# Altium footprint library ADI.PcbLib: 25 footprints (part 2 of 4)
Each footprint in its own frame and in the unit in brackets; x right, y up, seen from the top. Pads: shape width x height; smd on the part's side, far side on the other; paste and mask are expansions set on the pad; w line width, h text height; cw(c..) or ccw(c..) is an arc to the next point about the centre after c.
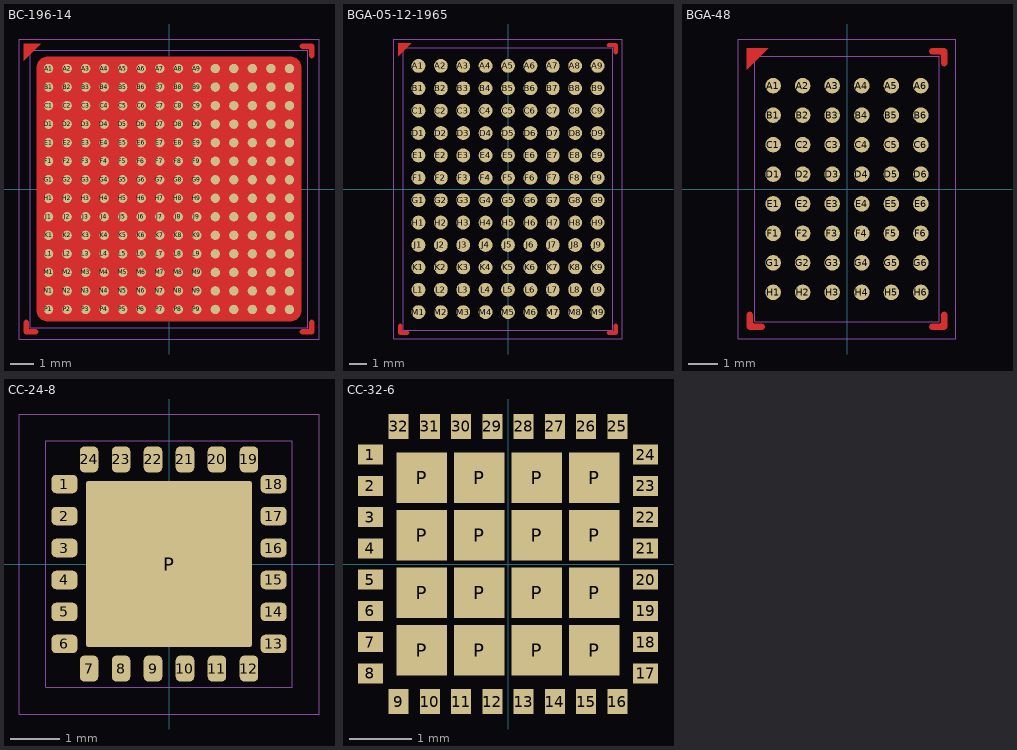
[diagram p1: the footprints below, top view; thin cyan lines are the x and y axes]

## BC-196-14 [mil]
pads (196):
  round 16 smd mask+2: A1(-204.72,204.72) A2(-173.23,204.72) A3(-141.73,204.72) A4(-110.24,204.72) A5(-78.74,204.72) A6(-47.24,204.72) A7(-15.75,204.72) A8(15.75,204.72) A9(47.24,204.72) A10(78.74,204.72) A11(110.24,204.72) A12(141.73,204.72) A13(173.23,204.72) A14(204.72,204.72) B1(-204.72,173.23) B2(-173.23,173.23) B3(-141.73,173.23) B4(-110.24,173.23) B5(-78.74,173.23) B6(-47.24,173.23) B7(-15.75,173.23) B8(15.75,173.23) B9(47.24,173.23) B10(78.74,173.23) B11(110.24,173.23) B12(141.73,173.23) B13(173.23,173.23) B14(204.72,173.23) C1(-204.72,141.73) C2(-173.23,141.73) C3(-141.73,141.73) C4(-110.24,141.73) C5(-78.74,141.73) C6(-47.24,141.73) C7(-15.75,141.73) C8(15.75,141.73) C9(47.24,141.73) C10(78.74,141.73) C11(110.24,141.73) C12(141.73,141.73) C13(173.23,141.73) C14(204.72,141.73) D1(-204.72,110.24) D2(-173.23,110.24) D3(-141.73,110.24) D4(-110.24,110.24) D5(-78.74,110.24) D6(-47.24,110.24) D7(-15.75,110.24) D8(15.75,110.24) D9(47.24,110.24) D10(78.74,110.24) D11(110.24,110.24) D12(141.73,110.24) D13(173.23,110.24) D14(204.72,110.24) E1(-204.72,78.74) E2(-173.23,78.74) E3(-141.73,78.74) E4(-110.24,78.74) E5(-78.74,78.74) E6(-47.24,78.74) E7(-15.75,78.74) E8(15.75,78.74) E9(47.24,78.74) E10(78.74,78.74) E11(110.24,78.74) E12(141.73,78.74) E13(173.23,78.74) E14(204.72,78.74) F1(-204.72,47.24) F2(-173.23,47.24) F3(-141.73,47.24) F4(-110.24,47.24) F5(-78.74,47.24) F6(-47.24,47.24) F7(-15.75,47.24) F8(15.75,47.24) F9(47.24,47.24) F10(78.74,47.24) F11(110.24,47.24) F12(141.73,47.24) F13(173.23,47.24) F14(204.72,47.24) G1(-204.72,15.75) G2(-173.23,15.75) G3(-141.73,15.75) G4(-110.24,15.75) G5(-78.74,15.75) G6(-47.24,15.75) G7(-15.75,15.75) G8(15.75,15.75) G9(47.24,15.75) G10(78.74,15.75) G11(110.24,15.75) G12(141.73,15.75) G13(173.23,15.75) G14(204.72,15.75) H1(-204.72,-15.75) H2(-173.23,-15.75) H3(-141.73,-15.75) H4(-110.24,-15.75) H5(-78.74,-15.75) H6(-47.24,-15.75) H7(-15.75,-15.75) H8(15.75,-15.75) H9(47.24,-15.75) H10(78.74,-15.75) H11(110.24,-15.75) H12(141.73,-15.75) H13(173.23,-15.75) H14(204.72,-15.75) J1(-204.72,-47.24) J2(-173.23,-47.24) J3(-141.73,-47.24) J4(-110.24,-47.24) J5(-78.74,-47.24) J6(-47.24,-47.24) J7(-15.75,-47.24) J8(15.75,-47.24) J9(47.24,-47.24) J10(78.74,-47.24) J11(110.24,-47.24) J12(141.73,-47.24) J13(173.23,-47.24) J14(204.72,-47.24) K1(-204.72,-78.74) K2(-173.23,-78.74) K3(-141.73,-78.74) K4(-110.24,-78.74) K5(-78.74,-78.74) K6(-47.24,-78.74) K7(-15.75,-78.74) K8(15.75,-78.74) K9(47.24,-78.74) K10(78.74,-78.74) K11(110.24,-78.74) K12(141.73,-78.74) K13(173.23,-78.74) K14(204.72,-78.74) L1(-204.72,-110.24) L2(-173.23,-110.24) L3(-141.73,-110.24) L4(-110.24,-110.24) L5(-78.74,-110.24) L6(-47.24,-110.24) L7(-15.75,-110.24) L8(15.75,-110.24) L9(47.24,-110.24) L10(78.74,-110.24) L11(110.24,-110.24) L12(141.73,-110.24) L13(173.23,-110.24) L14(204.72,-110.24) M1(-204.72,-141.73) M2(-173.23,-141.73) M3(-141.73,-141.73) M4(-110.24,-141.73) M5(-78.74,-141.73) M6(-47.24,-141.73) M7(-15.75,-141.73) M8(15.75,-141.73) M9(47.24,-141.73) M10(78.74,-141.73) M11(110.24,-141.73) M12(141.73,-141.73) M13(173.23,-141.73) M14(204.72,-141.73) N1(-204.72,-173.23) N2(-173.23,-173.23) N3(-141.73,-173.23) N4(-110.24,-173.23) N5(-78.74,-173.23) N6(-47.24,-173.23) N7(-15.75,-173.23) N8(15.75,-173.23) N9(47.24,-173.23) N10(78.74,-173.23) N11(110.24,-173.23) N12(141.73,-173.23) N13(173.23,-173.23) N14(204.72,-173.23) P1(-204.72,-204.72) P2(-173.23,-204.72) P3(-141.73,-204.72) P4(-110.24,-204.72) P5(-78.74,-204.72) P6(-47.24,-204.72) P7(-15.75,-204.72) P8(15.75,-204.72) P9(47.24,-204.72) P10(78.74,-204.72) P11(110.24,-204.72) P12(141.73,-204.72) P13(173.23,-204.72) P14(204.72,-204.72)
Top Layer:
  region: -238.68,-226.69 -238.68,-225.89 -239.29,-224.42 -240.42,-223.29 -241.89,-222.69 -242.68,-222.69 -243.48,-222.69 -244.95,-223.29 -246.08,-224.42 -246.68,-225.89 -246.68,-226.69 -246.68,-242.69 -246.68,-243.48 -246.08,-244.95 -244.95,-246.08 -243.48,-246.69 -242.68,-246.69 -226.68,-246.69 -225.89,-246.69 -224.42,-246.08 -223.29,-244.95 -222.68,-243.48 -222.68,-242.69 -222.68,-241.89 -223.29,-240.42 -224.42,-239.29 -225.89,-238.69 -226.68,-238.69 -236.68,-238.69 -237.07,-238.65 -237.8,-238.35 -238.35,-237.8 -238.65,-237.08 -238.68,-236.69
  region: 226.69,-238.68 225.89,-238.68 224.42,-239.29 223.29,-240.42 222.69,-241.89 222.69,-242.68 222.69,-243.48 223.29,-244.95 224.42,-246.08 225.89,-246.68 226.69,-246.68 242.69,-246.68 243.48,-246.68 244.95,-246.08 246.08,-244.95 246.69,-243.48 246.69,-242.68 246.69,-226.68 246.69,-225.89 246.08,-224.42 244.95,-223.29 243.48,-222.68 242.69,-222.68 241.89,-222.68 240.42,-223.29 239.29,-224.42 238.69,-225.89 238.69,-226.68 238.69,-236.68 238.65,-237.07 238.35,-237.8 237.8,-238.35 237.08,-238.65 236.69,-238.68
  region: -246.69,246.69 -246.69,218.14 -218.14,246.69
  pour cut-out: -225,-205 -225,-208.98 -221.96,-216.33 -216.33,-221.96 -208.98,-225 -205,-225 205,-225 208.98,-225 216.33,-221.96 221.96,-216.33 225,-208.98 225,-205 225,205 225,208.98 221.96,216.33 216.33,221.96 208.98,225 205,225 -205,225 -208.98,225 -216.33,221.96 -221.96,216.33 -225,208.98 -225,205
  region: 238.68,226.69 238.68,225.89 239.29,224.42 240.42,223.29 241.89,222.69 242.68,222.69 243.48,222.69 244.95,223.29 246.08,224.42 246.68,225.89 246.68,226.69 246.68,242.69 246.68,243.48 246.08,244.95 244.95,246.08 243.48,246.69 242.68,246.69 226.68,246.69 225.89,246.69 224.42,246.08 223.29,244.95 222.68,243.48 222.68,242.69 222.68,241.89 223.29,240.42 224.42,239.29 225.89,238.69 226.68,238.69 236.68,238.69 237.07,238.65 237.8,238.35 238.35,237.8 238.65,237.08 238.68,236.69
Top Designator:
  text ".Designator" at -127.64,-12.5 h35
Top Courtyard:
  lines w1: -255,-255 -255,255 255,255 255,-255 -255,-255
Top Component Outline:
  lines w1: -236.22,-236.22 -236.22,236.22 236.22,236.22 236.22,-236.22 -236.22,-236.22 ; -216,192 -216,201 -207,201 -207,192 -216,192 ; -129.72,-147.44 -129.72,147.44 129.72,147.44 129.72,-147.44 -129.72,-147.44
3D body: height 29.92, standoff 12.6, extent -236.22,-236.22 236.22,236.22
3D body: height 16.84, standoff -2.84, extent -214.53,194.99 -194.93,214.57
3D body: height 16.84, standoff -2.84, extent -214.53,163.49 -194.93,183.08
3D body: height 16.84, standoff -2.84, extent -214.53,132 -194.93,151.58
3D body: height 16.84, standoff -2.84, extent -214.53,100.5 -194.93,120.09
3D body: height 16.84, standoff -2.84, extent -214.53,69.01 -194.93,88.59
3D body: height 16.84, standoff -2.84, extent -214.53,37.51 -194.93,57.09
3D body: height 16.84, standoff -2.84, extent -214.53,6.01 -194.93,25.6
3D body: height 16.84, standoff -2.84, extent -214.53,-25.48 -194.93,-5.9
3D body: height 16.84, standoff -2.84, extent -214.53,-56.98 -194.93,-37.39
3D body: height 16.84, standoff -2.84, extent -214.53,-88.47 -194.93,-68.89
3D body: height 16.84, standoff -2.84, extent -214.53,-119.97 -194.93,-100.39
3D body: height 16.84, standoff -2.84, extent -214.53,-151.47 -194.93,-131.88
3D body: height 16.84, standoff -2.84, extent -214.53,-182.96 -194.93,-163.38
3D body: height 16.84, standoff -2.84, extent -214.53,-214.46 -194.93,-194.87
3D body: height 16.84, standoff -2.84, extent -183.03,194.99 -163.43,214.57
3D body: height 16.84, standoff -2.84, extent -183.03,163.49 -163.43,183.08
3D body: height 16.84, standoff -2.84, extent -183.03,132 -163.43,151.58
3D body: height 16.84, standoff -2.84, extent -183.03,100.5 -163.43,120.09
3D body: height 16.84, standoff -2.84, extent -183.03,69.01 -163.43,88.59
3D body: height 16.84, standoff -2.84, extent -183.03,37.51 -163.43,57.09
3D body: height 16.84, standoff -2.84, extent -183.03,6.01 -163.43,25.6
3D body: height 16.84, standoff -2.84, extent -183.03,-25.48 -163.43,-5.9
3D body: height 16.84, standoff -2.84, extent -183.03,-56.98 -163.43,-37.39
3D body: height 16.84, standoff -2.84, extent -183.03,-88.47 -163.43,-68.89
3D body: height 16.84, standoff -2.84, extent -183.03,-119.97 -163.43,-100.39
3D body: height 16.84, standoff -2.84, extent -183.03,-151.47 -163.43,-131.88
3D body: height 16.84, standoff -2.84, extent -183.03,-182.96 -163.43,-163.38
3D body: height 16.84, standoff -2.84, extent -183.03,-214.46 -163.43,-194.87
3D body: height 16.84, standoff -2.84, extent -151.54,194.99 -131.93,214.57
3D body: height 16.84, standoff -2.84, extent -151.54,163.49 -131.93,183.08
3D body: height 16.84, standoff -2.84, extent -151.54,132 -131.93,151.58
3D body: height 16.84, standoff -2.84, extent -151.54,100.5 -131.93,120.09
3D body: height 16.84, standoff -2.84, extent -151.54,69.01 -131.93,88.59
3D body: height 16.84, standoff -2.84, extent -151.54,37.51 -131.93,57.09
3D body: height 16.84, standoff -2.84, extent -151.54,6.01 -131.93,25.6
3D body: height 16.84, standoff -2.84, extent -151.54,-25.48 -131.93,-5.9
3D body: height 16.84, standoff -2.84, extent -151.54,-56.98 -131.93,-37.39
3D body: height 16.84, standoff -2.84, extent -151.54,-88.47 -131.93,-68.89
3D body: height 16.84, standoff -2.84, extent -151.54,-119.97 -131.93,-100.39
3D body: height 16.84, standoff -2.84, extent -151.54,-151.47 -131.93,-131.88
3D body: height 16.84, standoff -2.84, extent -151.54,-182.96 -131.93,-163.38
3D body: height 16.84, standoff -2.84, extent -151.54,-214.46 -131.93,-194.87
3D body: height 16.84, standoff -2.84, extent -120.04,194.99 -100.44,214.57
3D body: height 16.84, standoff -2.84, extent -120.04,163.49 -100.44,183.08
3D body: height 16.84, standoff -2.84, extent -120.04,132 -100.44,151.58
3D body: height 16.84, standoff -2.84, extent -120.04,100.5 -100.44,120.09
3D body: height 16.84, standoff -2.84, extent -120.04,69.01 -100.44,88.59
3D body: height 16.84, standoff -2.84, extent -120.04,37.51 -100.44,57.09
3D body: height 16.84, standoff -2.84, extent -120.04,6.01 -100.44,25.6
3D body: height 16.84, standoff -2.84, extent -120.04,-25.48 -100.44,-5.9
3D body: height 16.84, standoff -2.84, extent -120.04,-56.98 -100.44,-37.39
3D body: height 16.84, standoff -2.84, extent -120.04,-88.47 -100.44,-68.89
3D body: height 16.84, standoff -2.84, extent -120.04,-119.97 -100.44,-100.39
3D body: height 16.84, standoff -2.84, extent -120.04,-151.47 -100.44,-131.88
3D body: height 16.84, standoff -2.84, extent -120.04,-182.96 -100.44,-163.38
3D body: height 16.84, standoff -2.84, extent -120.04,-214.46 -100.44,-194.87
3D body: height 16.84, standoff -2.84, extent -88.54,194.99 -68.94,214.57
3D body: height 16.84, standoff -2.84, extent -88.54,163.49 -68.94,183.08
3D body: height 16.84, standoff -2.84, extent -88.54,132 -68.94,151.58
3D body: height 16.84, standoff -2.84, extent -88.54,100.5 -68.94,120.09
3D body: height 16.84, standoff -2.84, extent -88.54,69.01 -68.94,88.59
3D body: height 16.84, standoff -2.84, extent -88.54,37.51 -68.94,57.09
3D body: height 16.84, standoff -2.84, extent -88.54,6.01 -68.94,25.6
3D body: height 16.84, standoff -2.84, extent -88.54,-25.48 -68.94,-5.9
3D body: height 16.84, standoff -2.84, extent -88.54,-56.98 -68.94,-37.39
3D body: height 16.84, standoff -2.84, extent -88.54,-88.47 -68.94,-68.89
3D body: height 16.84, standoff -2.84, extent -88.54,-119.97 -68.94,-100.39
3D body: height 16.84, standoff -2.84, extent -88.54,-151.47 -68.94,-131.88
3D body: height 16.84, standoff -2.84, extent -88.54,-182.96 -68.94,-163.38
3D body: height 16.84, standoff -2.84, extent -88.54,-214.46 -68.94,-194.87
3D body: height 16.84, standoff -2.84, extent -57.05,194.99 -37.44,214.57
3D body: height 16.84, standoff -2.84, extent -57.05,163.49 -37.44,183.08
3D body: height 16.84, standoff -2.84, extent -57.05,132 -37.44,151.58
3D body: height 16.84, standoff -2.84, extent -57.05,100.5 -37.44,120.09
3D body: height 16.84, standoff -2.84, extent -57.05,69.01 -37.44,88.59
3D body: height 16.84, standoff -2.84, extent -57.05,37.51 -37.44,57.09
3D body: height 16.84, standoff -2.84, extent -57.05,6.01 -37.44,25.6
3D body: height 16.84, standoff -2.84, extent -57.05,-25.48 -37.44,-5.9
3D body: height 16.84, standoff -2.84, extent -57.05,-56.98 -37.44,-37.39
3D body: height 16.84, standoff -2.84, extent -57.05,-88.47 -37.44,-68.89
3D body: height 16.84, standoff -2.84, extent -57.05,-119.97 -37.44,-100.39
3D body: height 16.84, standoff -2.84, extent -57.05,-151.47 -37.44,-131.88
3D body: height 16.84, standoff -2.84, extent -57.05,-182.96 -37.44,-163.38
3D body: height 16.84, standoff -2.84, extent -57.05,-214.46 -37.44,-194.87
3D body: height 16.84, standoff -2.84, extent -25.55,194.99 -5.95,214.57
3D body: height 16.84, standoff -2.84, extent -25.55,163.49 -5.95,183.08
3D body: height 16.84, standoff -2.84, extent -25.55,132 -5.95,151.58
3D body: height 16.84, standoff -2.84, extent -25.55,100.5 -5.95,120.09
3D body: height 16.84, standoff -2.84, extent -25.55,69.01 -5.95,88.59
3D body: height 16.84, standoff -2.84, extent -25.55,37.51 -5.95,57.09
3D body: height 16.84, standoff -2.84, extent -25.55,6.01 -5.95,25.6
3D body: height 16.84, standoff -2.84, extent -25.55,-25.48 -5.95,-5.9
3D body: height 16.84, standoff -2.84, extent -25.55,-56.98 -5.95,-37.39
3D body: height 16.84, standoff -2.84, extent -25.55,-88.47 -5.95,-68.89
3D body: height 16.84, standoff -2.84, extent -25.55,-119.97 -5.95,-100.39
3D body: height 16.84, standoff -2.84, extent -25.55,-151.47 -5.95,-131.88
3D body: height 16.84, standoff -2.84, extent -25.55,-182.96 -5.95,-163.38
3D body: height 16.84, standoff -2.84, extent -25.55,-214.46 -5.95,-194.87
3D body: height 16.84, standoff -2.84, extent 5.94,194.99 25.55,214.57
3D body: height 16.84, standoff -2.84, extent 5.94,163.49 25.55,183.08
3D body: height 16.84, standoff -2.84, extent 5.94,132 25.55,151.58
3D body: height 16.84, standoff -2.84, extent 5.94,100.5 25.55,120.09
3D body: height 16.84, standoff -2.84, extent 5.94,69.01 25.55,88.59
3D body: height 16.84, standoff -2.84, extent 5.94,37.51 25.55,57.09
3D body: height 16.84, standoff -2.84, extent 5.94,6.01 25.55,25.6
3D body: height 16.84, standoff -2.84, extent 5.94,-25.48 25.55,-5.9
3D body: height 16.84, standoff -2.84, extent 5.94,-56.98 25.55,-37.39
3D body: height 16.84, standoff -2.84, extent 5.94,-88.47 25.55,-68.89
3D body: height 16.84, standoff -2.84, extent 5.94,-119.97 25.55,-100.39
3D body: height 16.84, standoff -2.84, extent 5.94,-151.47 25.55,-131.88
3D body: height 16.84, standoff -2.84, extent 5.94,-182.96 25.55,-163.38
3D body: height 16.84, standoff -2.84, extent 5.94,-214.46 25.55,-194.87
3D body: height 16.84, standoff -2.84, extent 37.44,194.99 57.04,214.57
3D body: height 16.84, standoff -2.84, extent 37.44,163.49 57.04,183.08
3D body: height 16.84, standoff -2.84, extent 37.44,132 57.04,151.58
3D body: height 16.84, standoff -2.84, extent 37.44,100.5 57.04,120.09
3D body: height 16.84, standoff -2.84, extent 37.44,69.01 57.04,88.59
3D body: height 16.84, standoff -2.84, extent 37.44,37.51 57.04,57.09
3D body: height 16.84, standoff -2.84, extent 37.44,6.01 57.04,25.6
3D body: height 16.84, standoff -2.84, extent 37.44,-25.48 57.04,-5.9
3D body: height 16.84, standoff -2.84, extent 37.44,-56.98 57.04,-37.39
3D body: height 16.84, standoff -2.84, extent 37.44,-88.47 57.04,-68.89
3D body: height 16.84, standoff -2.84, extent 37.44,-119.97 57.04,-100.39
3D body: height 16.84, standoff -2.84, extent 37.44,-151.47 57.04,-131.88
3D body: height 16.84, standoff -2.84, extent 37.44,-182.96 57.04,-163.38
3D body: height 16.84, standoff -2.84, extent 37.44,-214.46 57.04,-194.87
3D body: height 16.84, standoff -2.84, extent 68.94,194.99 88.54,214.57
3D body: height 16.84, standoff -2.84, extent 68.94,163.49 88.54,183.08
3D body: height 16.84, standoff -2.84, extent 68.94,132 88.54,151.58
3D body: height 16.84, standoff -2.84, extent 68.94,100.5 88.54,120.09
3D body: height 16.84, standoff -2.84, extent 68.94,69.01 88.54,88.59
3D body: height 16.84, standoff -2.84, extent 68.94,37.51 88.54,57.09
3D body: height 16.84, standoff -2.84, extent 68.94,6.01 88.54,25.6
3D body: height 16.84, standoff -2.84, extent 68.94,-25.48 88.54,-5.9
3D body: height 16.84, standoff -2.84, extent 68.94,-56.98 88.54,-37.39
3D body: height 16.84, standoff -2.84, extent 68.94,-88.47 88.54,-68.89
3D body: height 16.84, standoff -2.84, extent 68.94,-119.97 88.54,-100.39
3D body: height 16.84, standoff -2.84, extent 68.94,-151.47 88.54,-131.88
3D body: height 16.84, standoff -2.84, extent 68.94,-182.96 88.54,-163.38
3D body: height 16.84, standoff -2.84, extent 68.94,-214.46 88.54,-194.87
3D body: height 16.84, standoff -2.84, extent 100.43,194.99 120.04,214.57
3D body: height 16.84, standoff -2.84, extent 100.43,163.49 120.04,183.08
3D body: height 16.84, standoff -2.84, extent 100.43,132 120.04,151.58
3D body: height 16.84, standoff -2.84, extent 100.43,100.5 120.04,120.09
3D body: height 16.84, standoff -2.84, extent 100.43,69.01 120.04,88.59
3D body: height 16.84, standoff -2.84, extent 100.43,37.51 120.04,57.09
3D body: height 16.84, standoff -2.84, extent 100.43,6.01 120.04,25.6
3D body: height 16.84, standoff -2.84, extent 100.43,-25.48 120.04,-5.9
3D body: height 16.84, standoff -2.84, extent 100.43,-56.98 120.04,-37.39
3D body: height 16.84, standoff -2.84, extent 100.43,-88.47 120.04,-68.89
3D body: height 16.84, standoff -2.84, extent 100.43,-119.97 120.04,-100.39
3D body: height 16.84, standoff -2.84, extent 100.43,-151.47 120.04,-131.88
3D body: height 16.84, standoff -2.84, extent 100.43,-182.96 120.04,-163.38
3D body: height 16.84, standoff -2.84, extent 100.43,-214.46 120.04,-194.87
3D body: height 16.84, standoff -2.84, extent 131.93,194.99 151.53,214.57
3D body: height 16.84, standoff -2.84, extent 131.93,163.49 151.53,183.08
3D body: height 16.84, standoff -2.84, extent 131.93,132 151.53,151.58
3D body: height 16.84, standoff -2.84, extent 131.93,100.5 151.53,120.09
3D body: height 16.84, standoff -2.84, extent 131.93,69.01 151.53,88.59
3D body: height 16.84, standoff -2.84, extent 131.93,37.51 151.53,57.09
3D body: height 16.84, standoff -2.84, extent 131.93,6.01 151.53,25.6
3D body: height 16.84, standoff -2.84, extent 131.93,-25.48 151.53,-5.9
3D body: height 16.84, standoff -2.84, extent 131.93,-56.98 151.53,-37.39
3D body: height 16.84, standoff -2.84, extent 131.93,-88.47 151.53,-68.89
3D body: height 16.84, standoff -2.84, extent 131.93,-119.97 151.53,-100.39
3D body: height 16.84, standoff -2.84, extent 131.93,-151.47 151.53,-131.88
3D body: height 16.84, standoff -2.84, extent 131.93,-182.96 151.53,-163.38
3D body: height 16.84, standoff -2.84, extent 131.93,-214.46 151.53,-194.87
3D body: height 16.84, standoff -2.84, extent 163.42,194.99 183.03,214.57
3D body: height 16.84, standoff -2.84, extent 163.42,163.49 183.03,183.08
3D body: height 16.84, standoff -2.84, extent 163.42,132 183.03,151.58
3D body: height 16.84, standoff -2.84, extent 163.42,100.5 183.03,120.09
3D body: height 16.84, standoff -2.84, extent 163.42,69.01 183.03,88.59
3D body: height 16.84, standoff -2.84, extent 163.42,37.51 183.03,57.09
3D body: height 16.84, standoff -2.84, extent 163.42,6.01 183.03,25.6
3D body: height 16.84, standoff -2.84, extent 163.42,-25.48 183.03,-5.9
3D body: height 16.84, standoff -2.84, extent 163.42,-56.98 183.03,-37.39
3D body: height 16.84, standoff -2.84, extent 163.42,-88.47 183.03,-68.89
3D body: height 16.84, standoff -2.84, extent 163.42,-119.97 183.03,-100.39
3D body: height 16.84, standoff -2.84, extent 163.42,-151.47 183.03,-131.88
3D body: height 16.84, standoff -2.84, extent 163.42,-182.96 183.03,-163.38
3D body: height 16.84, standoff -2.84, extent 163.42,-214.46 183.03,-194.87
3D body: height 16.84, standoff -2.84, extent 194.92,-214.46 214.52,-194.87
3D body: height 16.84, standoff -2.84, extent 194.92,-182.96 214.52,-163.38
3D body: height 16.84, standoff -2.84, extent 194.92,-151.47 214.52,-131.88
3D body: height 16.84, standoff -2.84, extent 194.92,-119.97 214.52,-100.39
3D body: height 16.84, standoff -2.84, extent 194.92,-88.47 214.52,-68.89
3D body: height 16.84, standoff -2.84, extent 194.92,-56.98 214.52,-37.39
3D body: height 16.84, standoff -2.84, extent 194.92,-25.48 214.52,-5.9
3D body: height 16.84, standoff -2.84, extent 194.92,6.01 214.52,25.6
3D body: height 16.84, standoff -2.84, extent 194.92,37.51 214.52,57.09
3D body: height 16.84, standoff -2.84, extent 194.92,69.01 214.52,88.59
3D body: height 16.84, standoff -2.84, extent 194.92,100.5 214.52,120.09
3D body: height 16.84, standoff -2.84, extent 194.92,132 214.52,151.58
3D body: height 16.84, standoff -2.84, extent 194.92,163.49 214.52,183.08
3D body: height 16.84, standoff -2.84, extent 194.92,194.99 214.52,214.57
3D body: height 48.03, standoff 27.56, extent -129.72,-147.44 129.72,147.44
3D body: height 29.96, standoff 27.56, extent -216,192 -207,201
3D body: height 29.96, standoff 27.56, extent 199,-185 210,-182
3D body: height 29.96, standoff 27.56, extent 203,-189 206,-178

## BGA-05-12-1965 [mil]
pads (108):
  round 31 smd mask+2: A1(-200,275) A2(-150,275) A3(-100,275) A4(-50,275) A5(0,275) A6(50,275) A7(100,275) A8(150,275) A9(200,275) B1(-200,225) B2(-150,225) B3(-100,225) B4(-50,225) B5(0,225) B6(50,225) B7(100,225) B8(150,225) B9(200,225) C1(-200,175) C2(-150,175) C3(-100,175) C4(-50,175) C5(0,175) C6(50,175) C7(100,175) C8(150,175) C9(200,175) D1(-200,125) D2(-150,125) D3(-100,125) D4(-50,125) D5(0,125) D6(50,125) D7(100,125) D8(150,125) D9(200,125) E1(-200,75) E2(-150,75) E3(-100,75) E4(-50,75) E5(0,75) E6(50,75) E7(100,75) E8(150,75) E9(200,75) F1(-200,25) F2(-150,25) F3(-100,25) F4(-50,25) F5(0,25) F6(50,25) F7(100,25) F8(150,25) F9(200,25) G1(-200,-25) G2(-150,-25) G3(-100,-25) G4(-50,-25) G5(0,-25) G6(50,-25) G7(100,-25) G8(150,-25) G9(200,-25) H1(-200,-75) H2(-150,-75) H3(-100,-75) H4(-50,-75) H5(0,-75) H6(50,-75) H7(100,-75) H8(150,-75) H9(200,-75) J1(-200,-125) J2(-150,-125) J3(-100,-125) J4(-50,-125) J5(0,-125) J6(50,-125) J7(100,-125) J8(150,-125) J9(200,-125) K1(-200,-175) K2(-150,-175) K3(-100,-175) K4(-50,-175) K5(0,-175) K6(50,-175) K7(100,-175) K8(150,-175) K9(200,-175) L1(-200,-225) L2(-150,-225) L3(-100,-225) L4(-50,-225) L5(0,-225) L6(50,-225) L7(100,-225) L8(150,-225) L9(200,-225) M1(-200,-275) M2(-150,-275) M3(-100,-275) M4(-50,-275) M5(0,-275) M6(50,-275) M7(100,-275) M8(150,-275) M9(200,-275)
Top Layer:
  region: 224.72,-317.42 223.92,-317.42 222.45,-318.03 221.33,-319.16 220.72,-320.63 220.72,-321.42 220.72,-322.22 221.33,-323.69 222.45,-324.82 223.92,-325.42 224.72,-325.42 240.72,-325.42 241.51,-325.42 242.98,-324.82 244.11,-323.69 244.72,-322.22 244.72,-321.42 244.72,-305.42 244.72,-304.63 244.11,-303.16 242.98,-302.03 241.51,-301.42 240.72,-301.42 239.92,-301.42 238.45,-302.03 237.33,-303.16 236.72,-304.63 236.72,-305.42 236.72,-315.42 236.68,-315.81 236.38,-316.54 235.83,-317.09 235.11,-317.39 234.72,-317.42
  region: -236.72,-305.43 -236.72,-304.63 -237.32,-303.16 -238.45,-302.03 -239.92,-301.43 -240.72,-301.43 -241.51,-301.43 -242.98,-302.03 -244.11,-303.16 -244.72,-304.63 -244.72,-305.43 -244.72,-321.43 -244.72,-322.22 -244.11,-323.69 -242.98,-324.82 -241.51,-325.43 -240.72,-325.43 -224.72,-325.43 -223.92,-325.43 -222.45,-324.82 -221.32,-323.69 -220.72,-322.22 -220.72,-321.43 -220.72,-320.63 -221.32,-319.16 -222.45,-318.03 -223.92,-317.43 -224.72,-317.43 -234.72,-317.43 -235.11,-317.39 -235.83,-317.09 -236.38,-316.54 -236.68,-315.82 -236.72,-315.43
  region: 236.72,305.43 236.72,304.63 237.32,303.16 238.45,302.03 239.92,301.43 240.72,301.43 241.51,301.43 242.98,302.03 244.11,303.16 244.72,304.63 244.72,305.43 244.72,321.43 244.72,322.22 244.11,323.69 242.98,324.82 241.51,325.43 240.72,325.43 224.72,325.43 223.92,325.43 222.45,324.82 221.32,323.69 220.72,322.22 220.72,321.43 220.72,320.63 221.32,319.16 222.45,318.03 223.92,317.43 224.72,317.43 234.72,317.43 235.11,317.39 235.83,317.09 236.38,316.54 236.68,315.82 236.72,315.43
  region: -244.72,325.43 -244.72,296.88 -216.17,325.43
Top Designator:
  text ".Designator" at 12.5,-127.64 h35
Top Courtyard:
  lines w1: -255,-335 255,-335 255,335 -255,335 -255,-335
Top Component Outline:
  lines w1: -234.25,-314.96 234.25,-314.96 234.25,314.96 -234.25,314.96 -234.25,-314.96
3D body: height 19.4, standoff -5.4, extent -212.31,-237.39 -187.69,-212.59
3D body: height 19.4, standoff -5.4, extent -162.31,-237.39 -137.69,-212.59
3D body: height 19.4, standoff -5.4, extent -112.31,-237.39 -87.69,-212.59
3D body: height 19.4, standoff -5.4, extent -62.31,-237.39 -37.69,-212.59
3D body: height 19.4, standoff -5.4, extent -12.31,-237.39 12.31,-212.59
3D body: height 19.4, standoff -5.4, extent 37.69,-237.39 62.31,-212.59
3D body: height 19.4, standoff -5.4, extent 87.69,-237.39 112.31,-212.59
3D body: height 19.4, standoff -5.4, extent 137.69,-237.39 162.31,-212.59
3D body: height 19.4, standoff -5.4, extent 187.69,-237.39 212.31,-212.59
3D body: height 19.4, standoff -5.4, extent 187.69,-287.39 212.31,-262.59
3D body: height 19.4, standoff -5.4, extent 137.69,-287.39 162.31,-262.59
3D body: height 19.4, standoff -5.4, extent 87.69,-287.39 112.31,-262.59
3D body: height 19.4, standoff -5.4, extent 37.69,-287.39 62.31,-262.59
3D body: height 19.4, standoff -5.4, extent -12.31,-287.39 12.31,-262.59
3D body: height 19.4, standoff -5.4, extent -62.31,-287.39 -37.69,-262.59
3D body: height 19.4, standoff -5.4, extent -112.31,-287.39 -87.69,-262.59
3D body: height 19.4, standoff -5.4, extent -162.31,-287.39 -137.69,-262.59
3D body: height 19.4, standoff -5.4, extent -212.31,-287.39 -187.69,-262.59
3D body: height 19.4, standoff -5.4, extent -212.31,-137.39 -187.69,-112.59
3D body: height 19.4, standoff -5.4, extent -162.31,-137.39 -137.69,-112.59
3D body: height 19.4, standoff -5.4, extent -112.31,-137.39 -87.69,-112.59
3D body: height 19.4, standoff -5.4, extent -62.31,-137.39 -37.69,-112.59
3D body: height 19.4, standoff -5.4, extent -12.31,-137.39 12.31,-112.59
3D body: height 19.4, standoff -5.4, extent 37.69,-137.39 62.31,-112.59
3D body: height 19.4, standoff -5.4, extent 87.69,-137.39 112.31,-112.59
3D body: height 19.4, standoff -5.4, extent 137.69,-137.39 162.31,-112.59
3D body: height 19.4, standoff -5.4, extent 187.69,-137.39 212.31,-112.59
3D body: height 19.4, standoff -5.4, extent 187.69,-187.39 212.31,-162.59
3D body: height 19.4, standoff -5.4, extent 137.69,-187.39 162.31,-162.59
3D body: height 19.4, standoff -5.4, extent 87.69,-187.39 112.31,-162.59
3D body: height 19.4, standoff -5.4, extent 37.69,-187.39 62.31,-162.59
3D body: height 19.4, standoff -5.4, extent -12.31,-187.39 12.31,-162.59
3D body: height 19.4, standoff -5.4, extent -62.31,-187.39 -37.69,-162.59
3D body: height 19.4, standoff -5.4, extent -112.31,-187.39 -87.69,-162.59
3D body: height 19.4, standoff -5.4, extent -162.31,-187.39 -137.69,-162.59
3D body: height 19.4, standoff -5.4, extent -212.31,-187.39 -187.69,-162.59
3D body: height 19.4, standoff -5.4, extent -212.31,-37.39 -187.69,-12.59
3D body: height 19.4, standoff -5.4, extent -162.31,-37.39 -137.69,-12.59
3D body: height 19.4, standoff -5.4, extent -112.31,-37.39 -87.69,-12.59
3D body: height 19.4, standoff -5.4, extent -62.31,-37.39 -37.69,-12.59
3D body: height 19.4, standoff -5.4, extent -12.31,-37.39 12.31,-12.59
3D body: height 19.4, standoff -5.4, extent 37.69,-37.39 62.31,-12.59
3D body: height 19.4, standoff -5.4, extent 87.69,-37.39 112.31,-12.59
3D body: height 19.4, standoff -5.4, extent 137.69,-37.39 162.31,-12.59
3D body: height 19.4, standoff -5.4, extent 187.69,-37.39 212.31,-12.59
3D body: height 19.4, standoff -5.4, extent 187.69,-87.39 212.31,-62.59
3D body: height 19.4, standoff -5.4, extent 137.69,-87.39 162.31,-62.59
3D body: height 19.4, standoff -5.4, extent 87.69,-87.39 112.31,-62.59
3D body: height 19.4, standoff -5.4, extent 37.69,-87.39 62.31,-62.59
3D body: height 19.4, standoff -5.4, extent -12.31,-87.39 12.31,-62.59
3D body: height 19.4, standoff -5.4, extent -62.31,-87.39 -37.69,-62.59
3D body: height 19.4, standoff -5.4, extent -112.31,-87.39 -87.69,-62.59
3D body: height 19.4, standoff -5.4, extent -162.31,-87.39 -137.69,-62.59
3D body: height 19.4, standoff -5.4, extent -212.31,-87.39 -187.69,-62.59
3D body: height 19.4, standoff -5.4, extent -212.31,62.61 -187.69,87.41
3D body: height 19.4, standoff -5.4, extent -162.31,62.61 -137.69,87.41
3D body: height 19.4, standoff -5.4, extent -112.31,62.61 -87.69,87.41
3D body: height 19.4, standoff -5.4, extent -62.31,62.61 -37.69,87.41
3D body: height 19.4, standoff -5.4, extent -12.31,62.61 12.31,87.41
3D body: height 19.4, standoff -5.4, extent 37.69,62.61 62.31,87.41
3D body: height 19.4, standoff -5.4, extent 87.69,62.61 112.31,87.41
3D body: height 19.4, standoff -5.4, extent 137.69,62.61 162.31,87.41
3D body: height 19.4, standoff -5.4, extent 187.69,62.61 212.31,87.41
3D body: height 19.4, standoff -5.4, extent 187.69,12.61 212.31,37.41
3D body: height 19.4, standoff -5.4, extent 137.69,12.61 162.31,37.41
3D body: height 19.4, standoff -5.4, extent 87.69,12.61 112.31,37.41
3D body: height 19.4, standoff -5.4, extent 37.69,12.61 62.31,37.41
3D body: height 19.4, standoff -5.4, extent -12.31,12.61 12.31,37.41
3D body: height 19.4, standoff -5.4, extent -62.31,12.61 -37.69,37.41
3D body: height 19.4, standoff -5.4, extent -112.31,12.61 -87.69,37.41
3D body: height 19.4, standoff -5.4, extent -162.31,12.61 -137.69,37.41
3D body: height 19.4, standoff -5.4, extent -212.31,12.61 -187.69,37.41
3D body: height 19.4, standoff -5.4, extent -212.31,162.61 -187.69,187.41
3D body: height 19.4, standoff -5.4, extent -162.31,162.61 -137.69,187.41
3D body: height 19.4, standoff -5.4, extent -112.31,162.61 -87.69,187.41
3D body: height 19.4, standoff -5.4, extent -62.31,162.61 -37.69,187.41
3D body: height 19.4, standoff -5.4, extent -12.31,162.61 12.31,187.41
3D body: height 19.4, standoff -5.4, extent 37.69,162.61 62.31,187.41
3D body: height 19.4, standoff -5.4, extent 87.69,162.61 112.31,187.41
3D body: height 19.4, standoff -5.4, extent 137.69,162.61 162.31,187.41
3D body: height 19.4, standoff -5.4, extent 187.69,162.61 212.31,187.41
3D body: height 19.4, standoff -5.4, extent 187.69,112.61 212.31,137.41
3D body: height 19.4, standoff -5.4, extent 137.69,112.61 162.31,137.41
3D body: height 19.4, standoff -5.4, extent 87.69,112.61 112.31,137.41
3D body: height 19.4, standoff -5.4, extent 37.69,112.61 62.31,137.41
3D body: height 19.4, standoff -5.4, extent -12.31,112.61 12.31,137.41
3D body: height 19.4, standoff -5.4, extent -62.31,112.61 -37.69,137.41
3D body: height 19.4, standoff -5.4, extent -112.31,112.61 -87.69,137.41
3D body: height 19.4, standoff -5.4, extent -162.31,112.61 -137.69,137.41
3D body: height 19.4, standoff -5.4, extent -212.31,112.61 -187.69,137.41
3D body: height 19.4, standoff -5.4, extent -212.31,212.61 -187.69,237.41
3D body: height 19.4, standoff -5.4, extent -162.31,212.61 -137.69,237.41
3D body: height 19.4, standoff -5.4, extent -112.31,212.61 -87.69,237.41
3D body: height 19.4, standoff -5.4, extent -62.31,212.61 -37.69,237.41
3D body: height 19.4, standoff -5.4, extent -12.31,212.61 12.31,237.41
3D body: height 19.4, standoff -5.4, extent 37.69,212.61 62.31,237.41
3D body: height 19.4, standoff -5.4, extent 87.69,212.61 112.31,237.41
3D body: height 19.4, standoff -5.4, extent 137.69,212.61 162.31,237.41
3D body: height 19.4, standoff -5.4, extent 187.69,212.61 212.31,237.41
3D body: height 19.4, standoff -5.4, extent 187.69,262.61 212.31,287.41
3D body: height 19.4, standoff -5.4, extent 137.69,262.61 162.31,287.41
3D body: height 19.4, standoff -5.4, extent 87.69,262.61 112.31,287.41
3D body: height 19.4, standoff -5.4, extent 37.69,262.61 62.31,287.41
3D body: height 19.4, standoff -5.4, extent -12.31,262.61 12.31,287.41
3D body: height 19.4, standoff -5.4, extent -62.31,262.61 -37.69,287.41
3D body: height 19.4, standoff -5.4, extent -112.31,262.61 -87.69,287.41
3D body: height 19.4, standoff -5.4, extent -162.31,262.61 -137.69,287.41
3D body: height 19.4, standoff -5.4, extent -212.31,262.61 -187.69,287.41
3D body: height 185.04, standoff 11.81, extent -234.25,-314.96 234.25,314.96

## BGA-48 [mm]
pads (48):
  round 0.525 smd mask+0.051: A1(-2.5,3.5) A2(-1.5,3.5) A3(-0.5,3.5) A4(0.5,3.5) A5(1.5,3.5) A6(2.5,3.5) B1(-2.5,2.5) B2(-1.5,2.5) B3(-0.5,2.5) B4(0.5,2.5) B5(1.5,2.5) B6(2.5,2.5) C1(-2.5,1.5) C2(-1.5,1.5) C3(-0.5,1.5) C4(0.5,1.5) C5(1.5,1.5) C6(2.5,1.5) D1(-2.5,0.5) D2(-1.5,0.5) D3(-0.5,0.5) D4(0.5,0.5) D5(1.5,0.5) D6(2.5,0.5) E1(-2.5,-0.5) E2(-1.5,-0.5) E3(-0.5,-0.5) E4(0.5,-0.5) E5(1.5,-0.5) E6(2.5,-0.5) F1(-2.5,-1.5) F2(-1.5,-1.5) F3(-0.5,-1.5) F4(0.5,-1.5) F5(1.5,-1.5) F6(2.5,-1.5) G1(-2.5,-2.5) G2(-1.5,-2.5) G3(-0.5,-2.5) G4(0.5,-2.5) G5(1.5,-2.5) G6(2.5,-2.5) H1(-2.5,-3.5) H2(-1.5,-3.5) H3(-0.5,-3.5) H4(0.5,-3.5) H5(1.5,-3.5) H6(2.5,-3.5)
Top Layer:
  region: -3.391,4.766 -3.391,4.041 -2.666,4.766
  region: 2.883,-4.563 2.863,-4.563 2.825,-4.578 2.797,-4.607 2.781,-4.644 2.781,-4.664 2.781,-4.684 2.797,-4.722 2.825,-4.75 2.863,-4.766 2.883,-4.766 3.289,-4.766 3.309,-4.766 3.347,-4.75 3.375,-4.722 3.391,-4.684 3.391,-4.664 3.391,-4.258 3.391,-4.238 3.375,-4.2 3.347,-4.172 3.309,-4.156 3.289,-4.156 3.269,-4.156 3.232,-4.172 3.203,-4.2 3.188,-4.238 3.188,-4.258 3.188,-4.512 3.187,-4.522 3.179,-4.54 3.165,-4.554 3.147,-4.562 3.137,-4.563
  region: -3.188,-4.258 -3.188,-4.238 -3.203,-4.2 -3.232,-4.172 -3.269,-4.156 -3.289,-4.156 -3.309,-4.156 -3.347,-4.172 -3.375,-4.2 -3.391,-4.238 -3.391,-4.258 -3.391,-4.664 -3.391,-4.684 -3.375,-4.722 -3.347,-4.75 -3.309,-4.766 -3.289,-4.766 -2.883,-4.766 -2.863,-4.766 -2.825,-4.75 -2.797,-4.722 -2.781,-4.684 -2.781,-4.664 -2.781,-4.644 -2.797,-4.607 -2.825,-4.578 -2.863,-4.563 -2.883,-4.563 -3.137,-4.563 -3.147,-4.562 -3.165,-4.554 -3.179,-4.54 -3.187,-4.522 -3.188,-4.512
  region: 3.188,4.258 3.188,4.238 3.203,4.2 3.232,4.172 3.269,4.156 3.289,4.156 3.309,4.156 3.347,4.172 3.375,4.2 3.391,4.238 3.391,4.258 3.391,4.664 3.391,4.684 3.375,4.722 3.347,4.75 3.309,4.766 3.289,4.766 2.883,4.766 2.863,4.766 2.825,4.75 2.797,4.722 2.781,4.684 2.781,4.664 2.781,4.644 2.797,4.607 2.825,4.578 2.863,4.563 2.883,4.563 3.137,4.563 3.147,4.562 3.165,4.554 3.179,4.54 3.187,4.522 3.188,4.512
Top Designator:
  text ".Designator" at 0.317,-3.242 h0.89
Top Courtyard:
  lines w0.025: -3.683,-5.08 3.683,-5.08 3.683,5.08 -3.683,5.08 -3.683,-5.08
Top Component Outline:
  lines w0.025: -3.125,-4.5 -3.125,4.5 3.125,4.5 3.125,-4.5 -3.125,-4.5
3D body: height 0.55, standoff -0.05, extent -2.798,3.2 -2.202,3.8
3D body: height 0.55, standoff -0.05, extent -1.798,3.2 -1.202,3.8
3D body: height 0.55, standoff -0.05, extent -0.798,3.2 -0.202,3.8
3D body: height 0.55, standoff -0.05, extent 0.202,3.2 0.798,3.8
3D body: height 0.55, standoff -0.05, extent 1.202,3.2 1.798,3.8
3D body: height 0.55, standoff -0.05, extent 2.202,3.2 2.798,3.8
3D body: height 0.55, standoff -0.05, extent -2.798,2.2 -2.202,2.8
3D body: height 0.55, standoff -0.05, extent -1.798,2.2 -1.202,2.8
3D body: height 0.55, standoff -0.05, extent -0.798,2.2 -0.202,2.8
3D body: height 0.55, standoff -0.05, extent 0.202,2.2 0.798,2.8
3D body: height 0.55, standoff -0.05, extent 1.202,2.2 1.798,2.8
3D body: height 0.55, standoff -0.05, extent 2.202,2.2 2.798,2.8
3D body: height 0.55, standoff -0.05, extent -2.798,1.2 -2.202,1.8
3D body: height 0.55, standoff -0.05, extent -1.798,1.2 -1.202,1.8
3D body: height 0.55, standoff -0.05, extent -0.798,1.2 -0.202,1.8
3D body: height 0.55, standoff -0.05, extent 0.202,1.2 0.798,1.8
3D body: height 0.55, standoff -0.05, extent 1.202,1.2 1.798,1.8
3D body: height 0.55, standoff -0.05, extent 2.202,1.2 2.798,1.8
3D body: height 0.55, standoff -0.05, extent -2.798,0.2 -2.202,0.8
3D body: height 0.55, standoff -0.05, extent -1.798,0.2 -1.202,0.8
3D body: height 0.55, standoff -0.05, extent -0.798,0.2 -0.202,0.8
3D body: height 0.55, standoff -0.05, extent 0.202,0.2 0.798,0.8
3D body: height 0.55, standoff -0.05, extent 1.202,0.2 1.798,0.8
3D body: height 0.55, standoff -0.05, extent 2.202,0.2 2.798,0.8
3D body: height 0.55, standoff -0.05, extent -2.798,-0.8 -2.202,-0.2
3D body: height 0.55, standoff -0.05, extent -1.798,-0.8 -1.202,-0.2
3D body: height 0.55, standoff -0.05, extent -0.798,-0.8 -0.202,-0.2
3D body: height 0.55, standoff -0.05, extent 0.202,-0.8 0.798,-0.2
3D body: height 0.55, standoff -0.05, extent 1.202,-0.8 1.798,-0.2
3D body: height 0.55, standoff -0.05, extent 2.202,-0.8 2.798,-0.2
3D body: height 0.55, standoff -0.05, extent -2.798,-1.8 -2.202,-1.2
3D body: height 0.55, standoff -0.05, extent -1.798,-1.8 -1.202,-1.2
3D body: height 0.55, standoff -0.05, extent -0.798,-1.8 -0.202,-1.2
3D body: height 0.55, standoff -0.05, extent 0.202,-1.8 0.798,-1.2
3D body: height 0.55, standoff -0.05, extent 1.202,-1.8 1.798,-1.2
3D body: height 0.55, standoff -0.05, extent 2.202,-1.8 2.798,-1.2
3D body: height 0.55, standoff -0.05, extent -2.798,-2.8 -2.202,-2.2
3D body: height 0.55, standoff -0.05, extent -1.798,-2.8 -1.202,-2.2
3D body: height 0.55, standoff -0.05, extent -0.798,-2.8 -0.202,-2.2
3D body: height 0.55, standoff -0.05, extent 0.202,-2.8 0.798,-2.2
3D body: height 0.55, standoff -0.05, extent 1.202,-2.8 1.798,-2.2
3D body: height 0.55, standoff -0.05, extent 2.202,-2.8 2.798,-2.2
3D body: height 0.55, standoff -0.05, extent -2.798,-3.8 -2.202,-3.2
3D body: height 0.55, standoff -0.05, extent -1.798,-3.8 -1.202,-3.2
3D body: height 0.55, standoff -0.05, extent -0.798,-3.8 -0.202,-3.2
3D body: height 0.55, standoff -0.05, extent 0.202,-3.8 0.798,-3.2
3D body: height 0.55, standoff -0.05, extent 1.202,-3.8 1.798,-3.2
3D body: height 0.55, standoff -0.05, extent 2.202,-3.8 2.798,-3.2
3D body: height 3.3, standoff 0.5, extent -3.125,-4.5 3.125,4.5

## CC-24-8 [mm]
height 0.8
pads (25):
  rrect50% 0.526x0.376 smd mask-0.038: 1(-2.125,1.625) 2(-2.125,0.975) 3(-2.125,0.325) 4(-2.125,-0.325) 5(-2.125,-0.975) 6(-2.125,-1.625) 13(2.125,-1.625) 14(2.125,-0.975) 15(2.125,-0.325) 16(2.125,0.325) 17(2.125,0.975) 18(2.125,1.625)
  rrect50% 0.376x0.526 smd mask-0.038: 7(-1.625,-2.125) 8(-0.975,-2.125) 9(-0.325,-2.125) 10(0.325,-2.125) 11(0.975,-2.125) 12(1.625,-2.125) 19(1.625,2.125) 20(0.975,2.125) 21(0.325,2.125) 22(-0.325,2.125) 23(-0.975,2.125) 24(-1.625,2.125)
  rrect3% 3.376x3.376 smd paste-20 mask-0.038: P(0,0)
Top Paste:
  rectangle: -1.524,-0.381 -1.27,-0.127
  region: -0.127,-0.381 -0.127,-0.127 -0.381,-0.127 -0.381,-0.381
  rectangle: -0.762,-0.381 -0.508,-0.127
  rectangle: -1.143,-0.381 -0.889,-0.127
  rectangle: -1.524,-0.762 -1.27,-0.508
  region: -0.127,-0.762 -0.127,-0.508 -0.381,-0.508 -0.381,-0.762
  rectangle: -0.762,-0.762 -0.508,-0.508
  rectangle: -1.143,-0.762 -0.889,-0.508
  rectangle: -1.524,-1.143 -1.27,-0.889
  region: -0.127,-1.143 -0.127,-0.889 -0.381,-0.889 -0.381,-1.143
  rectangle: -0.762,-1.143 -0.508,-0.889
  rectangle: -1.143,-1.143 -0.889,-0.889
  rectangle: -1.524,-1.524 -1.27,-1.27
  region: -0.127,-1.524 -0.127,-1.27 -0.381,-1.27 -0.381,-1.524
  rectangle: -0.762,-1.524 -0.508,-1.27
  rectangle: -1.143,-1.524 -0.889,-1.27
  rectangle: 0.127,-0.381 0.381,-0.127
  region: 1.524,-0.381 1.524,-0.127 1.27,-0.127 1.27,-0.381
  rectangle: 0.889,-0.381 1.143,-0.127
  rectangle: 0.508,-0.381 0.762,-0.127
  rectangle: 0.127,-0.762 0.381,-0.508
  region: 1.524,-0.762 1.524,-0.508 1.27,-0.508 1.27,-0.762
  rectangle: 0.889,-0.762 1.143,-0.508
  rectangle: 0.508,-0.762 0.762,-0.508
  rectangle: 0.127,-1.143 0.381,-0.889
  region: 1.524,-1.143 1.524,-0.889 1.27,-0.889 1.27,-1.143
  rectangle: 0.889,-1.143 1.143,-0.889
  rectangle: 0.508,-1.143 0.762,-0.889
  rectangle: 0.127,-1.524 0.381,-1.27
  region: 1.524,-1.524 1.524,-1.27 1.27,-1.27 1.27,-1.524
  rectangle: 0.889,-1.524 1.143,-1.27
  rectangle: 0.508,-1.524 0.762,-1.27
  rectangle: 0.127,1.27 0.381,1.524
  region: 1.524,1.27 1.524,1.524 1.27,1.524 1.27,1.27
  rectangle: 0.889,1.27 1.143,1.524
  rectangle: 0.508,1.27 0.762,1.524
  rectangle: 0.127,0.889 0.381,1.143
  region: 1.524,0.889 1.524,1.143 1.27,1.143 1.27,0.889
  rectangle: 0.889,0.889 1.143,1.143
  rectangle: 0.508,0.889 0.762,1.143
  rectangle: 0.127,0.508 0.381,0.762
  region: 1.524,0.508 1.524,0.762 1.27,0.762 1.27,0.508
  rectangle: 0.889,0.508 1.143,0.762
  rectangle: 0.508,0.508 0.762,0.762
  rectangle: 0.127,0.127 0.381,0.381
  region: 1.524,0.127 1.524,0.381 1.27,0.381 1.27,0.127
  rectangle: 0.889,0.127 1.143,0.381
  rectangle: 0.508,0.127 0.762,0.381
  rectangle: -1.524,1.27 -1.27,1.524
  region: -0.127,1.27 -0.127,1.524 -0.381,1.524 -0.381,1.27
  rectangle: -0.762,1.27 -0.508,1.524
  rectangle: -1.143,1.27 -0.889,1.524
  rectangle: -1.524,0.889 -1.27,1.143
  region: -0.127,0.889 -0.127,1.143 -0.381,1.143 -0.381,0.889
  rectangle: -0.762,0.889 -0.508,1.143
  rectangle: -1.143,0.889 -0.889,1.143
  rectangle: -1.524,0.508 -1.27,0.762
  region: -0.127,0.508 -0.127,0.762 -0.381,0.762 -0.381,0.508
  rectangle: -0.762,0.508 -0.508,0.762
  rectangle: -1.143,0.508 -0.889,0.762
  rectangle: -1.524,0.127 -1.27,0.381
  region: -0.127,0.127 -0.127,0.381 -0.381,0.381 -0.381,0.127
  rectangle: -0.762,0.127 -0.508,0.381
  rectangle: -1.143,0.127 -0.889,0.381
Top Solder:
  region: -2.766,2.766 -2.766,2.041 -2.041,2.766
  region: 2.563,2.258 2.563,2.238 2.578,2.2 2.607,2.172 2.644,2.156 2.664,2.156 2.684,2.156 2.722,2.172 2.75,2.2 2.766,2.238 2.766,2.258 2.766,2.664 2.766,2.684 2.75,2.722 2.722,2.75 2.684,2.766 2.664,2.766 2.258,2.766 2.238,2.766 2.2,2.75 2.172,2.722 2.156,2.684 2.156,2.664 2.156,2.644 2.172,2.607 2.2,2.578 2.238,2.563 2.258,2.563 2.512,2.563 2.522,2.562 2.54,2.554 2.554,2.54 2.562,2.522 2.563,2.512
  region: 2.258,-2.563 2.238,-2.563 2.2,-2.578 2.172,-2.607 2.156,-2.644 2.156,-2.664 2.156,-2.684 2.172,-2.722 2.2,-2.75 2.238,-2.766 2.258,-2.766 2.664,-2.766 2.684,-2.766 2.722,-2.75 2.75,-2.722 2.766,-2.684 2.766,-2.664 2.766,-2.258 2.766,-2.238 2.75,-2.2 2.722,-2.172 2.684,-2.156 2.664,-2.156 2.644,-2.156 2.607,-2.172 2.578,-2.2 2.563,-2.238 2.563,-2.258 2.563,-2.512 2.562,-2.522 2.554,-2.54 2.54,-2.554 2.522,-2.562 2.512,-2.563
  region: -2.563,-2.258 -2.563,-2.238 -2.578,-2.2 -2.607,-2.172 -2.644,-2.156 -2.664,-2.156 -2.684,-2.156 -2.722,-2.172 -2.75,-2.2 -2.766,-2.238 -2.766,-2.258 -2.766,-2.664 -2.766,-2.684 -2.75,-2.722 -2.722,-2.75 -2.684,-2.766 -2.664,-2.766 -2.258,-2.766 -2.238,-2.766 -2.2,-2.75 -2.172,-2.722 -2.156,-2.684 -2.156,-2.664 -2.156,-2.644 -2.172,-2.607 -2.2,-2.578 -2.238,-2.563 -2.258,-2.563 -2.512,-2.563 -2.522,-2.562 -2.54,-2.554 -2.554,-2.54 -2.562,-2.522 -2.563,-2.512
Top Designator:
  text ".Designator" at -3.242,-0.317 h0.89
Top Courtyard:
  lines w0.025: -3.048,-3.048 -3.048,3.048 3.048,3.048 3.048,-3.048 -3.048,-3.048
Top Component Outline:
  lines w0.025: -2.5,-2.5 2.5,-2.5 2.5,2.5 -2.5,2.5 -2.5,-2.5
3D body: height 0.8, standoff 0.01, extent -2.5,-2.5 2.5,2.5

## CC-32-6 [mm]
pads (48):
  rect 0.4x0.32 smd paste+0 mask+0: 1(-2.2,1.75) 2(-2.2,1.25) 3(-2.2,0.75) 4(-2.2,0.25) 5(-2.2,-0.25) 6(-2.2,-0.75) 7(-2.2,-1.25) 8(-2.2,-1.75) 17(2.2,-1.75) 18(2.2,-1.25) 19(2.2,-0.75) 20(2.2,-0.25) 21(2.2,0.25) 22(2.2,0.75) 23(2.2,1.25) 24(2.2,1.75)
  rect 0.32x0.4 smd paste+0 mask+0: 9(-1.75,-2.2) 10(-1.25,-2.2) 11(-0.75,-2.2) 12(-0.25,-2.2) 13(0.25,-2.2) 14(0.75,-2.2) 15(1.25,-2.2) 16(1.75,-2.2) 25(1.75,2.2) 26(1.25,2.2) 27(0.75,2.2) 28(0.25,2.2) 29(-0.25,2.2) 30(-0.75,2.2) 31(-1.25,2.2) 32(-1.75,2.2)
  rect 0.81x0.81 smd paste+0 mask+0: P(-1.38,-1.38) P(-1.38,-0.46) P(-1.38,0.46) P(-1.38,1.38) P(-0.46,-1.38) P(-0.46,-0.46) P(-0.46,0.46) P(-0.46,1.38) P(0.46,-1.38) P(0.46,-0.46) P(0.46,0.46) P(0.46,1.38) P(1.38,-1.38) P(1.38,-0.46) P(1.38,0.46) P(1.38,1.38)
Top Designator:
  text ".Designator" at -3.242,-0.317 h0.89